# Altium schematic symbol library tb6612_sparkfun.SchLib: 1 symbol
Pins are listed as number, name and electrical type; pins without a type are passive.

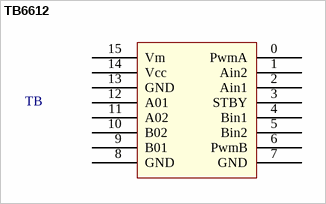
[diagram p0: symbol TB6612]

## TB6612
designator TB  (value not drawn)
footprint tb6612
pins: 0 PwmA, 1 Ain2, 2 Ain1, 3 STBY, 4 Bin1, 5 Bin2, 6 PwmB, 7 GND, 8 GND, 9 B01, 10 B02, 11 A02, 12 A01, 13 GND, 14 Vcc, 15 Vm